# Altium schematic symbol library CRGCQ1206F68K.SchLib: 1 symbol
Pins are listed as number, name and electrical type; pins without a type are passive.

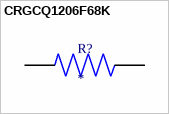
[diagram p0: symbol CRGCQ1206F68K]

## CRGCQ1206F68K
designator R?
Fixed Resistor CRGCQ 1206 68K 1%; MP: CRGCQ1206F68K; MF: {'manufacturer': u'TE Connectivity'}; Price: None; Package: None; Availability: Unavailable; Value: *
footprint RESC3115X65N
pins: 1, 2